# Altium schematic symbol library Schlib2.SchLib: 2 symbols
Pins are listed as number, name and electrical type; pins without a type are passive.

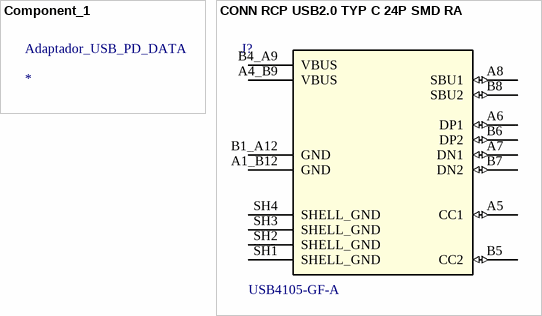
[diagram p0: symbols Component_1 to CONN RCP USB2.0 TYP C 24P SMD RA]

## Component_1
designator Adaptador_USB_PD_DATA

## CONN RCP USB2.0 TYP C 24P SMD RA
designator J?  PN: USB4105-GF-A  (hidden comment: *)
CONN RCP USB2.0 TYP C 24P SMD RA PN: USB4105-GF-A; MF: {'manufacturer': u'GCT'}; Package: None; Price: None; Availability: Unavailable; Value: *
footprint GCT_USB4105-GF-A
pins: A1_B12 GND (power), A4_B9 VBUS (power), A5 CC1 (io), A6 DP1 (io), A7 DN1 (io), A8 SBU1 (io), B1_A12 GND (power), B4_A9 VBUS (power), B5 CC2 (io), B6 DP2 (io), B7 DN2 (io), B8 SBU2 (io), SH1 SHELL_GND (power), SH2 SHELL_GND (power), SH3 SHELL_GND (power), SH4 SHELL_GND (power)